# Altium footprint library YageoLCNSeries.PcbLib: 4 footprints
Each footprint in its own frame and in the unit in brackets; x right, y up, seen from the top. Pads: shape width x height; smd on the part's side, far side on the other; paste and mask are expansions set on the pad; w line width, h text height; cw(c..) or ccw(c..) is an arc to the next point about the centre after c.
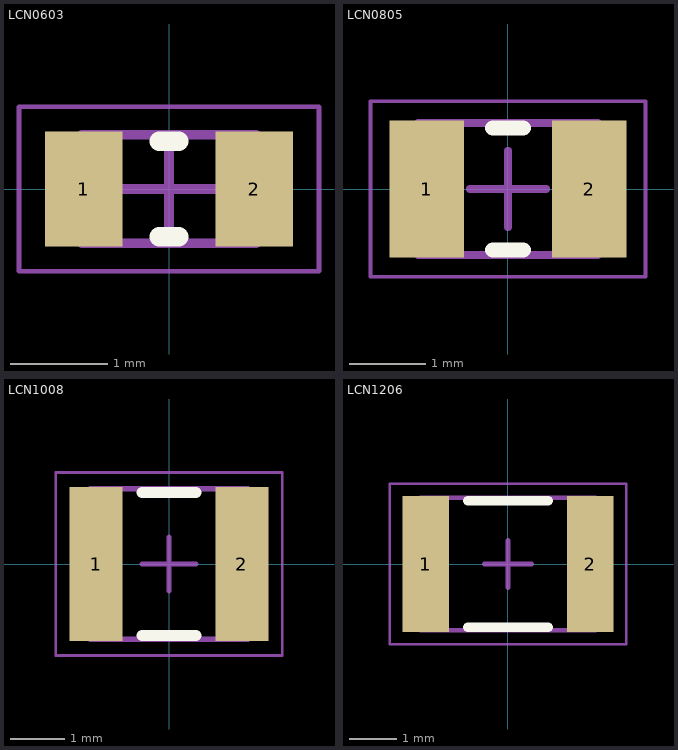
[diagram p0: the footprints below, top view; thin cyan lines are the x and y axes]

## LCN0603 [mm] "Yageo SMD Wire Wound Chip Inductors"
height 1.02
pads (2):
  rect 0.8x1.19 smd: 1(-0.88,0) 2(0.88,0)
Top Overlay:
  lines w0.2: -0.1,-0.495 0.1,-0.495 ; -0.1,0.495 0.1,0.495
Mechanical 13:
  lines w0.1: -0.9,-0.56 0.9,-0.56 0.9,0.56 -0.9,0.56 -0.9,-0.56
Mechanical 15:
  lines w0.05: -1.55,-0.85 1.55,-0.85 1.55,0.85 -1.55,0.85 -1.55,-0.85
  lines w0.1: -0.5,0 0.5,0 ; 0,-0.5 0,0.5
3D body "INDC1811X10N.step": height 1.02, standoff 0, extent -0.9,-0.56 0.9,0.56

## LCN0805 [mm] "Yageo SMD Wire Wound Chip Inductors"
height 1.52
pads (2):
  rect 0.98x1.8 smd: 1(-1.065,0) 2(1.065,0)
Top Overlay:
  lines w0.2: -0.2,-0.8 0.2,-0.8 ; -0.2,0.8 0.2,0.8
Mechanical 13:
  lines w0.1: -1.175,-0.865 1.175,-0.865 1.175,0.865 -1.175,0.865 -1.175,-0.865
Mechanical 15:
  lines w0.05: -1.8,-1.15 1.8,-1.15 1.8,1.15 -1.8,1.15 -1.8,-1.15
  lines w0.1: -0.5,0 0.5,0 ; 0,-0.5 0,0.5
3D body "INDC2317X15N.step": height 1.52, standoff 0, extent -1.175,-0.865 1.175,0.865

## LCN1008 [mm] "Yageo SMD Wire Wound Chip Inductors"
height 2.1
pads (2):
  rect 0.99x2.86 smd: 1(-1.355,0) 2(1.355,0)
Top Overlay:
  lines w0.2: -0.5,-1.33 0.5,-1.33 ; -0.5,1.33 0.5,1.33
Mechanical 13:
  lines w0.1: -1.46,-1.395 1.46,-1.395 1.46,1.395 -1.46,1.395 -1.46,-1.395
Mechanical 15:
  lines w0.05: -2.1,-1.7 2.1,-1.7 2.1,1.7 -2.1,1.7 -2.1,-1.7
  lines w0.1: -0.5,0 0.5,0 ; 0,-0.5 0,0.5
3D body "INDC2927X21N.step": height 2.1, standoff 0, extent -1.46,-1.395 1.46,1.395

## LCN1206 [mm] "Yageo SMD Wire Wound Chip Inductors"
height 2.2
pads (2):
  rect 0.98x2.87 smd: 1(-1.74,0) 2(1.74,0)
Top Overlay:
  lines w0.2: -0.85,-1.335 0.85,-1.335 ; -0.85,1.335 0.85,1.335
Mechanical 13:
  lines w0.1: -1.85,-1.4 1.85,-1.4 1.85,1.4 -1.85,1.4 -1.85,-1.4
Mechanical 15:
  lines w0.05: -2.5,-1.7 2.5,-1.7 2.5,1.7 -2.5,1.7 -2.5,-1.7
  lines w0.1: -0.5,0 0.5,0 ; 0,-0.5 0,0.5
3D body "INDC3628X22N.step": height 2.2, standoff 0, extent -1.85,-1.4 1.85,1.4